# EAGLE library part EA_DOGL128-6 (library ea_v66)
ELECTRONIC ASSEMBLY GmbH EA DOGL128B-6 EA DOGL128E-6 EA DOGL128L-6 EA DOGL128W-6 EA DOGL128S-6
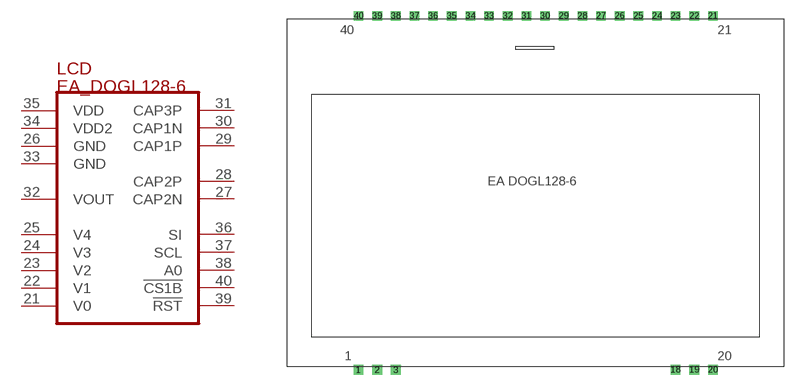
[diagram p5: symbol with the pads of EA_DOGL128-6; footprint EA_DOGL128-6]

Designator prefix LCD

## EA_DOGL128-6  [EA_DOGL128-6]
21  V0  in
22  V1  in
23  V2  pas
24  V3  pas
25  V4  pas
26  GND
27  CAP2N
28  CAP2P
29  CAP1P
30  CAP1N
31  CAP3P
32  VOUT  pas
33  GND
34  VDD2  pwr
35  VDD  pwr
36  SI
37  SCL  in
38  A0  in
39  !RST!  in
40  !CS1B!  in

## Footprint EA_DOGL128-6 (pad centres in mm)
EA DOGL128-6 Grafikdisplay COG 128x64 Pixel inkl.Kontroller Hersteller: ELECTRONIC ASSEMBLY GmbH http://www.lcd-module.de
drill 0.813 square: 1 0,0; 2 2.54,0; 3 5.08,0; 18 43.18,0; 19 45.72,0; 20 48.26,0; 21 48.26,48.26; 22 45.72,48.26; 23 43.18,48.26; 24 40.64,48.26; 25 38.1,48.26; 26 35.56,48.26; 27 33.02,48.26; 28 30.48,48.26; 29 27.94,48.26; 30 25.4,48.26; 31 22.86,48.26; 32 20.32,48.26; 33 17.78,48.26; 34 15.24,48.26; 35 12.7,48.26; 36 10.16,48.26; 37 7.62,48.26; 38 5.08,48.26; 39 2.54,48.26; 40 0,48.26